# EAGLE library part 44D- (library Chips)
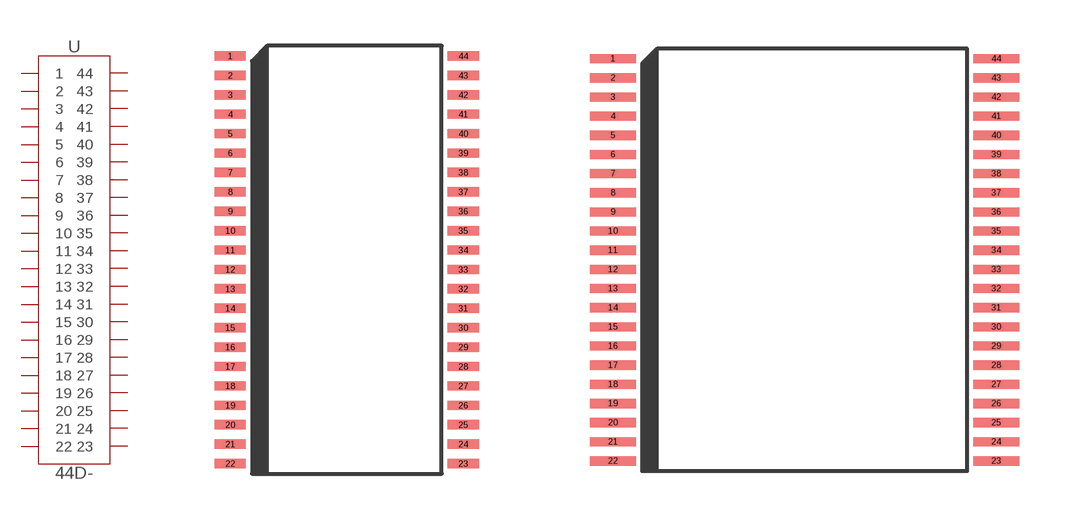
[diagram p16: symbol with the pads of 44SSOP_6.2MM; footprints 44SSOP_6.2MM, 44SSOP_11MM]

Designator prefix U

## 44D-SSOP_6.2MM  [44SSOP_6.2MM]
1  1
2  2
3  3
4  4
5  5
6  6
7  7
8  8
9  9
10  10
11  11
12  12
13  13
14  14
15  15
16  16
17  17
18  18
19  19
20  20
21  21
22  22
23  23
24  24
25  25
26  26
27  27
28  28
29  29
30  30
31  31
32  32
33  33
34  34
35  35
36  36
37  37
38  38
39  39
40  40
41  41
42  42
43  43
44  44

## 44D-SSOP_11MM  [44SSOP_11MM]
Pads as for 44SSOP_6.2MM

## Footprint 44SSOP_6.2MM (pad centres in mm)
smd 1.016 x 0.305: 1 -3.81,6.668; 2 -3.81,6.032; 3 -3.81,5.397; 4 -3.81,4.763; 5 -3.81,4.128; 6 -3.81,3.493; 7 -3.81,2.857; 8 -3.81,2.223; 9 -3.81,1.587; 10 -3.81,0.953; 11 -3.81,0.318; 12 -3.81,-0.318; 13 -3.81,-0.953; 14 -3.81,-1.587; 15 -3.81,-2.223; 16 -3.81,-2.857; 17 -3.81,-3.493; 18 -3.81,-4.128; 19 -3.81,-4.763; 20 -3.81,-5.397; 21 -3.81,-6.032; 22 -3.81,-6.668; 23 3.81,-6.668; 24 3.81,-6.032; 25 3.81,-5.397; 26 3.81,-4.763; 27 3.81,-4.128; 28 3.81,-3.493; 29 3.81,-2.857; 30 3.81,-2.223; 31 3.81,-1.587; 32 3.81,-0.953; 33 3.81,-0.318; 34 3.81,0.318; 35 3.81,0.953; 36 3.81,1.587; 37 3.81,2.223; 38 3.81,2.857; 39 3.81,3.493; 40 3.81,4.128; 41 3.81,4.763; 42 3.81,5.397; 43 3.81,6.032; 44 3.81,6.668

## Footprint 44SSOP_11MM (pad centres in mm)
smd 1.524 x 0.305: 1 -6.35,6.668; 2 -6.35,6.032; 3 -6.35,5.397; 4 -6.35,4.763; 5 -6.35,4.128; 6 -6.35,3.493; 7 -6.35,2.857; 8 -6.35,2.223; 9 -6.35,1.587; 10 -6.35,0.953; 11 -6.35,0.318; 12 -6.35,-0.318; 13 -6.35,-0.953; 14 -6.35,-1.587; 15 -6.35,-2.223; 16 -6.35,-2.857; 17 -6.35,-3.493; 18 -6.35,-4.128; 19 -6.35,-4.763; 20 -6.35,-5.397; 21 -6.35,-6.032; 22 -6.35,-6.668; 23 6.35,-6.668; 24 6.35,-6.032; 25 6.35,-5.397; 26 6.35,-4.763; 27 6.35,-4.128; 28 6.35,-3.493; 29 6.35,-2.857; 30 6.35,-2.223; 31 6.35,-1.587; 32 6.35,-0.953; 33 6.35,-0.318; 34 6.35,0.318; 35 6.35,0.953; 36 6.35,1.587; 37 6.35,2.223; 38 6.35,2.857; 39 6.35,3.493; 40 6.35,4.128; 41 6.35,4.763; 42 6.35,5.397; 43 6.35,6.032; 44 6.35,6.668